# Altium integrated library 20021311.IntLib: 2 symbols
Pins are listed as number, name and electrical type; pins without a type are passive.

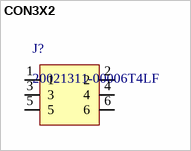
[diagram p0: symbol CON3X2]

## CON3X2
designator J?, comment 20021311-00006T4LF
PDF: http://portal.fciconnect.com/Comergent//fci/drawing/20021311.pdf; BUY_LINK: http://www.digikey.com/product-search/en?vendor=0&keywords=20021311-00006T4LF; PRICE: 0.54000; ID: 20021311-00006T4LF
footprint 20021311-00006T4LF
pins: 1, 2, 3, 4, 5, 6


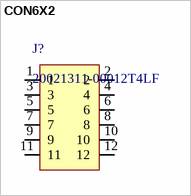
[diagram p1: symbol CON6X2]

## CON6X2
designator J?, comment 20021311-00012T4LF
PDF: http://portal.fciconnect.com/Comergent//fci/drawing/20021311.pdf; BUY_LINK: http://www.digikey.com/product-detail/en/20021311-00012T4LF/609-3755-ND/2209084; PRICE: 0.97000; ID: 20021311-00012T4LF
footprint 20021311-00012T4LF
pins: 1, 2, 3, 4, 5, 6, 7, 8, 9, 10, 11, 12